# EAGLE library part TVHD1552 (library sensor_floor)
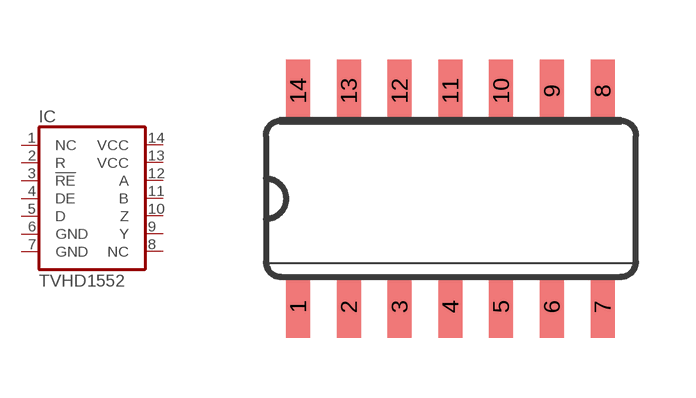
[diagram p6: symbol with the pads of SO14; footprint SO14]

Designator prefix IC

## TVHD1552  [SO14]
1  NC
2  R
3  !RE
4  DE
5  D
6  GND
7  GND
8  NC
9  Y
10  Z
11  B
12  A
13  VCC
14  VCC

## Footprint SO14 (pad centres in mm)
SOIC, 0.15 inch width
smd 0.6 x 1.55: 1 -3.175,-2.7; 2 -1.905,-2.7; 3 -0.635,-2.7; 4 0.635,-2.7; 5 1.905,-2.7; 6 3.175,-2.7; 7 4.445,-2.7; 8 4.445,2.7; 9 3.175,2.7; 10 1.905,2.7; 11 0.635,2.7; 12 -0.635,2.7; 13 -1.905,2.7; 14 -3.175,2.7